# Altium footprint library SOT-523.PcbLib: 1 footprints
Each footprint in its own frame and in the unit in brackets; x right, y up, seen from the top. Pads: shape width x height; smd on the part's side, far side on the other; paste and mask are expansions set on the pad; w line width, h text height; cw(c..) or ccw(c..) is an arc to the next point about the centre after c.
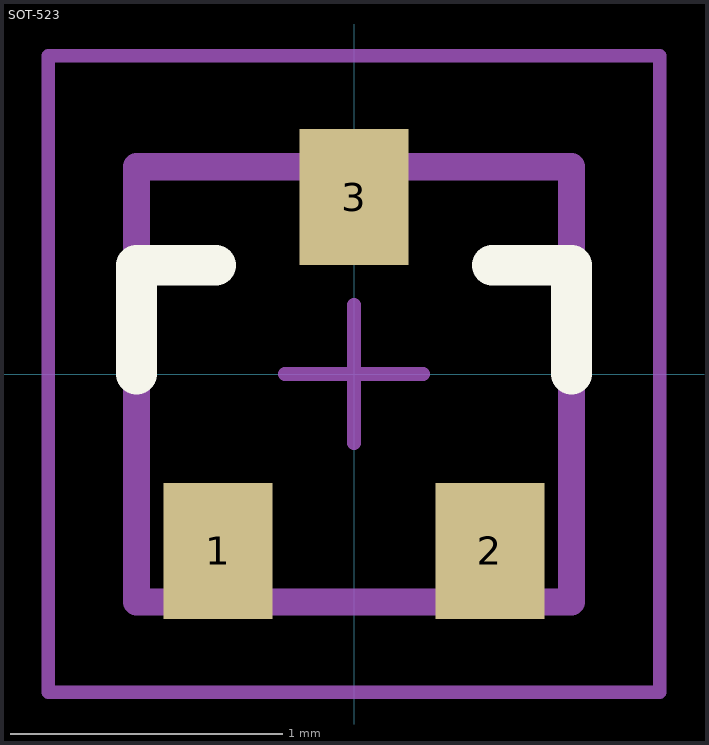
[diagram p0: the footprint, top view; thin cyan lines are the x and y axes]

## SOT-523 [mm]
pads (3):
  rect 0.4x0.5 smd: 1(-0.5,-0.65) 2(0.5,-0.65) 3(0,0.65)
Top Overlay:
  lines w0.15: -0.8,0 -0.8,0.4 -0.508,0.4 ; 0.508,0.4 0.8,0.4 0.8,0
Mechanical 13:
  lines w0.1: -0.8,-0.838 0.8,-0.838 0.8,0.762 -0.8,0.762 -0.8,-0.838
Mechanical 15:
  lines w0.05: -0.254,0 0.254,0 ; 0,-0.254 0,0.254 ; -1.125,-1.17 -1.125,1.17 1.125,1.17 1.125,-1.17 -1.125,-1.17
3D body: height 0.7, standoff -0.03, extent -0.8,-0.834 0.8,0.766